# EAGLE library part 10X1 (library Boards)
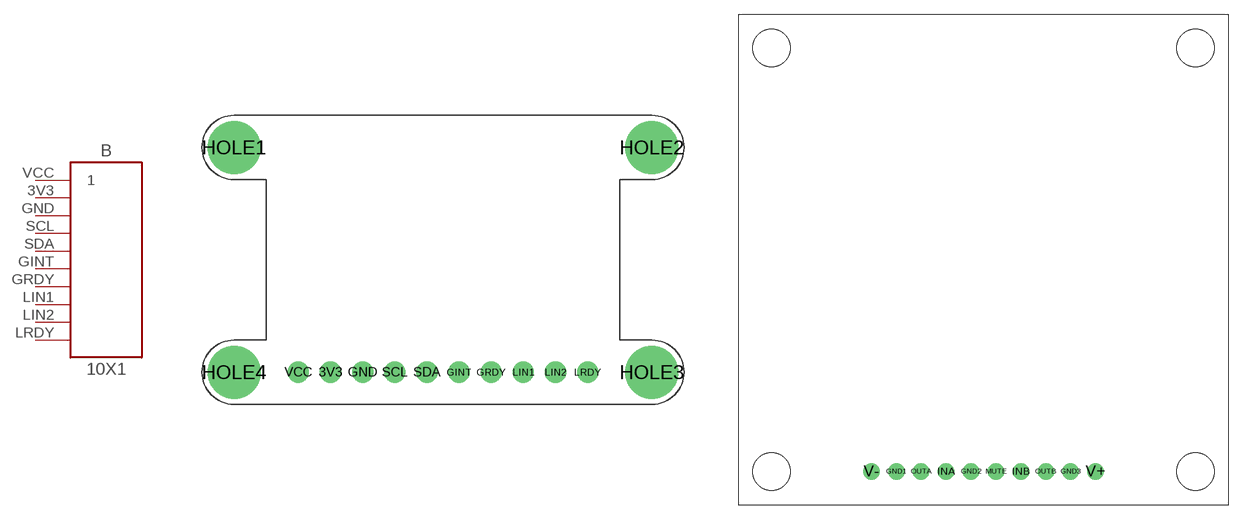
[diagram p4: symbol with the pads of ADAFRUIT_10DOF_IMU; footprints ADAFRUIT_10DOF_IMU, LM4780]

Designator prefix B

## 10X1ADAFRUIT_IMU  [ADAFRUIT_10DOF_IMU]
3V3  2
GINT  6
GND  3
GRDY  7
LIN1  8
LIN2  9
LRDY  10
SCL  4
SDA  5
VCC  1

## 10X1LM4780  [LM4780]
GND1  2
GND2  5
GND3  9
INA  4
INB  7
MUTE  6
OUTA  3
OUTB  8
V+  10
V-  1

## Footprint ADAFRUIT_10DOF_IMU (pad centres in mm)
drill 1 pad 1.676: 3V3 -8.89,-8.89; GINT 1.27,-8.89; GND -6.35,-8.89; GRDY 3.81,-8.89; LIN1 6.35,-8.89; LIN2 8.89,-8.89; LRDY 11.43,-8.89; SCL -3.81,-8.89; SDA -1.27,-8.89; VCC -11.43,-8.89
drill 3.175 pad 3.175: HOLE1 -16.51,8.89; HOLE2 16.51,8.89; HOLE3 16.51,-8.89; HOLE4 -16.51,-8.89

## Footprint LM4780 (pad centres in mm)
drill 1 pad 1.676: GND1 -8.89,-21.59; GND2 -1.27,-21.59; GND3 8.89,-21.59; INA -3.81,-21.59; INB 3.81,-21.59; MUTE 1.27,-21.59; OUTA -6.35,-21.59; OUTB 6.35,-21.59; V+ 11.43,-21.59; V- -11.43,-21.59
hole 3.81 at -21.59,-21.59
hole 3.81 at 21.59,-21.59
hole 3.81 at 21.59,21.59
hole 3.81 at -21.59,21.59